# Altium schematic symbol library 17791063215.SchLib: 1 symbol
Pins are listed as number, name and electrical type; pins without a type are passive.

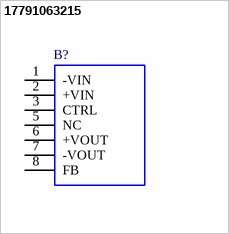
[diagram p0: symbol 17791063215]

## 17791063215
designator B?
Switching Voltage Regulators VISM 2kVReg 8-42VInp 1W SIP-8 3.3-6V Outp; Manufacturer_Name: Wurth Elektronik; Geometry.Height: 11.6mm; Manufacturer_Part_Number: 17791063215; Mouser Part Number: 710-17791063215; Mouser Price/Stock: https://www.mouser.co.uk/ProductDetail/Wurth-Elektronik/17791063215?qs=vLWxofP3U2xkPONd0ILDhA%3D%3D; Arrow Part Number: *; Arrow Price/Stock: *; Mouser Testing Part Number: *; Mouser Testing Price/Stock: *; Datasheet Link: https://www.mouser.de/datasheet/2/445/17791063215-1715724.pdf
footprint 17791063215
pins: 1 -VIN, 2 +VIN, 3 CTRL, 5 NC, 6 +VOUT, 7 -VOUT, 8 FB